# EAGLE library part ADC (library main)
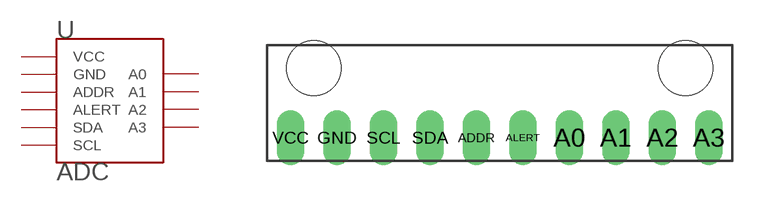
[diagram p2: symbol with the pads of ADC; footprint ADC]

Designator prefix -

## ADC  [ADC]
A0  A0
A1  A1
A2  A2
A3  A3
ADDR  ADDR
ALERT  ALERT
GND  GND
SCL  SCL
SDA  SDA
VCC  VCC

## Footprint ADC (pad centres in mm)
drill 1 long: A0 3.81,0; A1 6.35,0; A2 8.89,0; A3 11.43,0; ADDR -1.27,0; ALERT 1.27,0; GND -8.89,0; SCL -6.35,0; SDA -3.81,0; VCC -11.43,0
hole 3 at -10.16,3.81
hole 3 at 10.16,3.81